# EAGLE library part SLIDE_SW (library Gibbot v4)
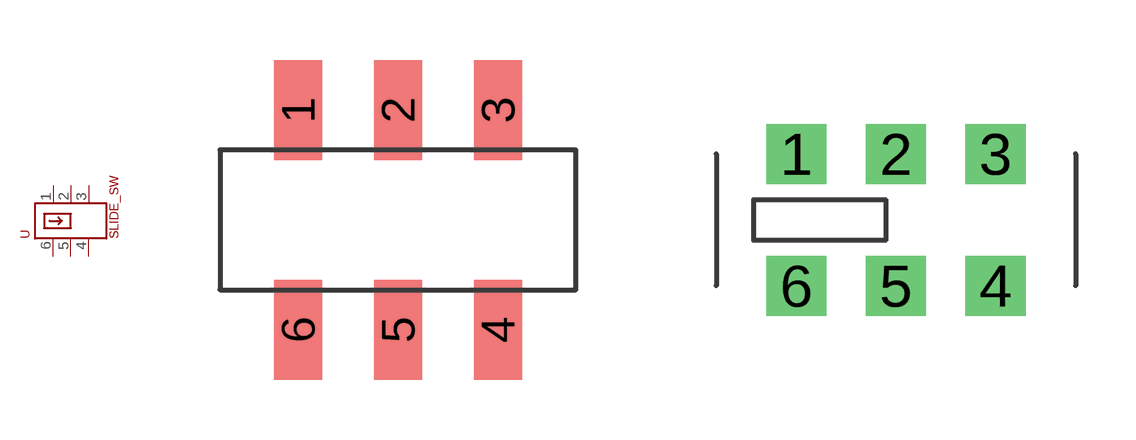
[diagram p7: symbol with the pads of SLIDE_SW; footprints SLIDE_SW, SLIDE_SWITCH]

Designator prefix -

## SLIDE_SW  [SLIDE_SW]
1  1
2  2
3  3
4  4
5  5
6  6

## SLIDE_SWTHROUGHHOLE  [SLIDE_SWITCH]
Pads as for SLIDE_SW

## Footprint SLIDE_SW (pad centres in mm)
smd 1.2 x 2.5: 1 -2.5,2.75; 2 0,2.75; 3 2.5,2.75; 4 2.5,-2.75; 5 0,-2.75; 6 -2.5,-2.75

## Footprint SLIDE_SWITCH (pad centres in mm)
drill 1 square: 1 -2.489,1.651; 2 0,1.651; 3 2.489,1.651; 4 2.489,-1.651; 5 0,-1.651; 6 -2.489,-1.651